# Altium footprint library DHVQFN-14.PcbLib: 1 footprints
Each footprint in its own frame and in the unit in brackets; x right, y up, seen from the top. Pads: shape width x height; smd on the part's side, far side on the other; paste and mask are expansions set on the pad; w line width, h text height; cw(c..) or ccw(c..) is an arc to the next point about the centre after c.
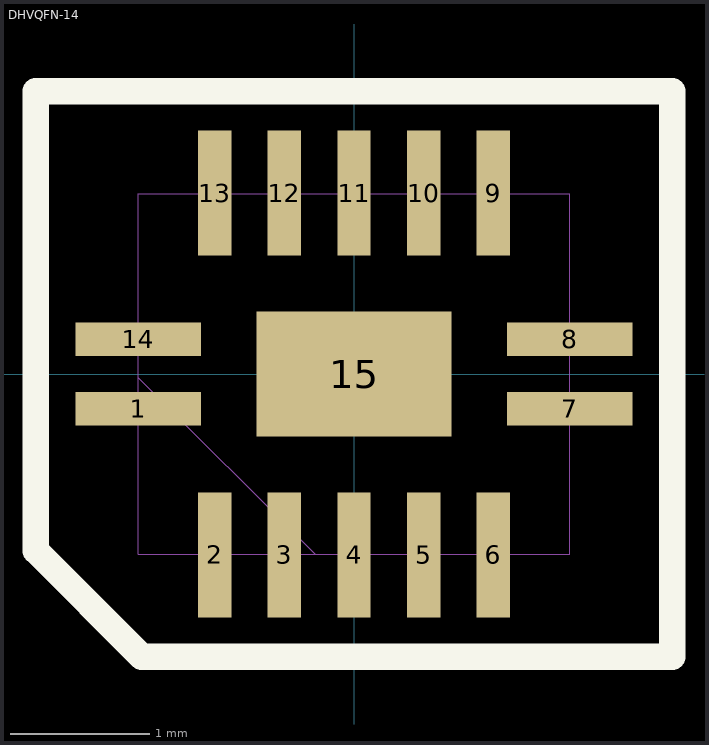
[diagram p0: the footprint, top view; thin cyan lines are the x and y axes]

## DHVQFN-14 [mm]
pads (15):
  rect 0.9x0.24 smd: 1(-1.55,-0.25) 7(1.55,-0.25) 8(1.55,0.25) 14(-1.55,0.25)
  rect 0.24x0.9 smd: 2(-1,-1.3) 3(-0.5,-1.3) 4(0,-1.3) 5(0.5,-1.3) 6(1,-1.3) 9(1,1.3) 10(0.5,1.3) 11(0,1.3) 12(-0.5,1.3) 13(-1,1.3)
  rect 1.4x0.9 smd: 15(0,0)
Top Overlay:
  lines w0.191: -2.286,-1.27 -1.524,-2.032 2.286,-2.032 2.286,2.032 -2.286,2.032 -2.286,-1.27
Mechanical 4:
  lines w0: -1.549,-1.295 -1.549,1.295 ; -1.549,-1.295 1.549,-1.295 ; -1.549,-1.295 -1.549,1.295 ; -1.549,-1.295 1.549,-1.295 ; -1.549,1.295 1.549,1.295 ; -1.549,1.295 1.549,1.295 ; 1.549,-1.295 1.549,1.295 ; 1.549,-1.295 1.549,1.295 ; -1.549,-0.406 -1.549,-0.102 -1.549,-0.406 ; -1.549,-0.025 -0.279,-1.295 -1.549,-0.025 ; -1.549,0.102 -1.549,0.406 -1.549,0.102 ; -1.143,-1.295 -0.838,-1.295 -1.143,-1.295 ; -1.143,1.295 -0.838,1.295 -1.143,1.295 ; -0.66,-1.295 -0.356,-1.295 -0.66,-1.295 ; -0.66,1.295 -0.356,1.295 -0.66,1.295 ; -0.152,-1.295 0.152,-1.295 -0.152,-1.295 ; -0.152,1.295 0.152,1.295 -0.152,1.295 ; 0.356,-1.295 0.66,-1.295 0.356,-1.295 ; 0.356,1.295 0.66,1.295 0.356,1.295 ; 0.838,-1.295 1.143,-1.295 0.838,-1.295 ; 0.838,1.295 1.143,1.295 0.838,1.295 ; 1.549,-0.406 1.549,-0.102 1.549,-0.406 ; 1.549,0.102 1.549,0.406 1.549,0.102
3D body "DHVQFN14.STEP": height 1, standoff 0, extent -1.5,-1.25 1.5,1.25